# EAGLE library part OVSPRGBCR4 (library KylePile)
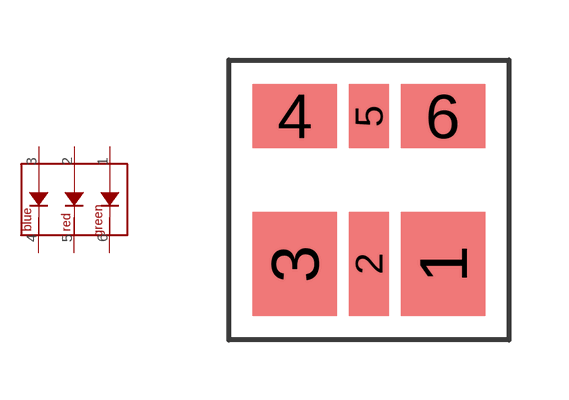
[diagram p15: symbol with the pads of OVSPRGBCR4; footprint OVSPRGBCR4]

Designator prefix -

## OVSPRGBCR4  [OVSPRGBCR4]
1  1
2  2
3  3
4  4
5  5
6  6

## Footprint OVSPRGBCR4 (pad centres in mm)
smd 2.108 x 2.591: 1 1.854,-1.6; 3 -1.854,-1.6
smd 0.991 x 2.591: 2 0,-1.6
smd 2.108 x 1.6: 4 -1.854,2.095; 6 1.854,2.095
smd 0.991 x 1.6: 5 0,2.095